# EAGLE library part RJ45 (library personal)
RJ45 RJ45 jacks side mounted http://www.tycoelectronics.com
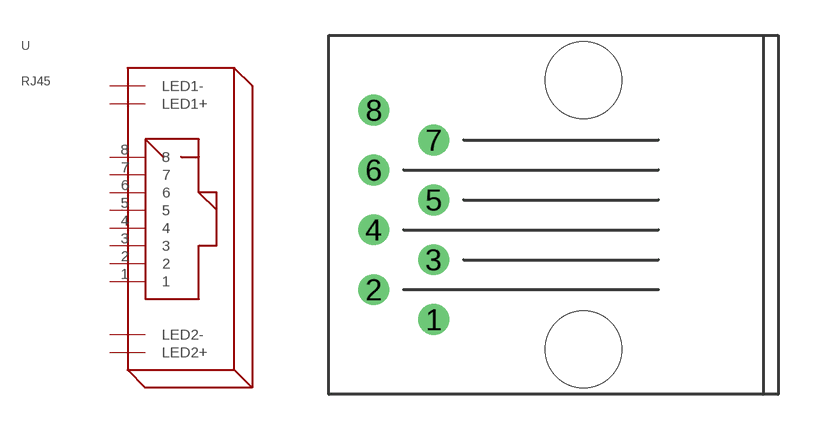
[diagram p3: symbol with the pads of RJ45; footprint RJ45]

Designator prefix -

## RJ45  [RJ45]
1  1
2  2
3  3
4  4
5  5
6  6
7  7
8  8

## Footprint RJ45 (pad centres in mm)
RJ45 RJ45 jacks side mounted http://www.tycoelectronics.com
drill 0.8 round: 1 -6.35,-4.445; 2 -8.89,-3.175; 3 -6.35,-1.905; 4 -8.89,-0.635; 5 -6.35,0.635; 6 -8.89,1.905; 7 -6.35,3.175; 8 -8.89,4.445
hole 3.25 at 0,-5.715
hole 3.25 at 0,5.715